# EAGLE library part ASM_ADAFRUIT_FEATHER_BLUEFRUIT (library HUM-ASM-001)
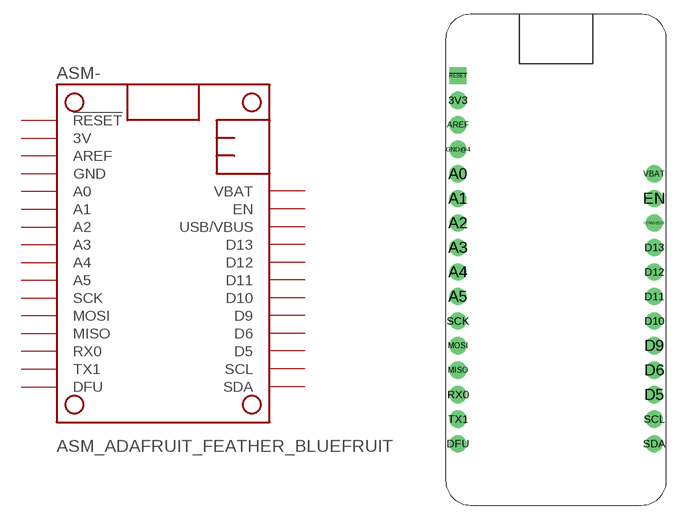
[diagram p0: symbol with the pads of ASM_ADAFRUIT_FEATHER_BLUEFRUIT; footprint ASM_ADAFRUIT_FEATHER_BLUEFRUIT]

Designator prefix ASM-

## ASM_ADAFRUIT_FEATHER_BLUEFRUIT  [ASM_ADAFRUIT_FEATHER_BLUEFRUIT]
3V3  3V  sup
!RESET  !RESET  in
A0  A0
A1  A1
A2  A2
A3  A3
A4  A4
A5  A5
AREF  AREF  pas
D5  D5
D6  D6
D9  D9
D10  D10
D11  D11
D12  D12
D13  D13
DFU  DFU
EN  EN  pas
GND@4  GND  pwr
MISO  MISO
MOSI  MOSI
RX0  RX0
SCK  SCK
SCL  SCL
SDA  SDA
TX1  TX1
USB/VBUS  USB/VBUS  sup
VBAT  VBAT  sup

## Footprint ASM_ADAFRUIT_FEATHER_BLUEFRUIT (pad centres in mm)
drill 1.016 pad 1.778: 3V3 -10.16,17.78; A0 -10.16,10.16; A1 -10.16,7.62; A2 -10.16,5.08; A3 -10.16,2.54; A4 -10.16,0; A5 -10.16,-2.54; AREF -10.16,15.24; D5 10.16,-12.7; D6 10.16,-10.16; D9 10.16,-7.62; D10 10.16,-5.08; D11 10.16,-2.54; D12 10.16,0; D13 10.16,2.54; DFU -10.16,-17.78; EN 10.16,7.62; GND@4 -10.16,12.7; MISO -10.16,-10.16; MOSI -10.16,-7.62; RX0 -10.16,-12.7; SCK -10.16,-5.08; SCL 10.16,-15.24; SDA 10.16,-17.78; TX1 -10.16,-15.24; USB/VBUS 10.16,5.08; VBAT 10.16,10.16
drill 1.016 pad 1.778 square: !RESET -10.16,20.32